# Altium footprint library SpeakEasy.PcbLib: 13 footprints
Each footprint in its own frame and in the unit in brackets; x right, y up, seen from the top. Pads: shape width x height; smd on the part's side, far side on the other; paste and mask are expansions set on the pad; w line width, h text height; cw(c..) or ccw(c..) is an arc to the next point about the centre after c.
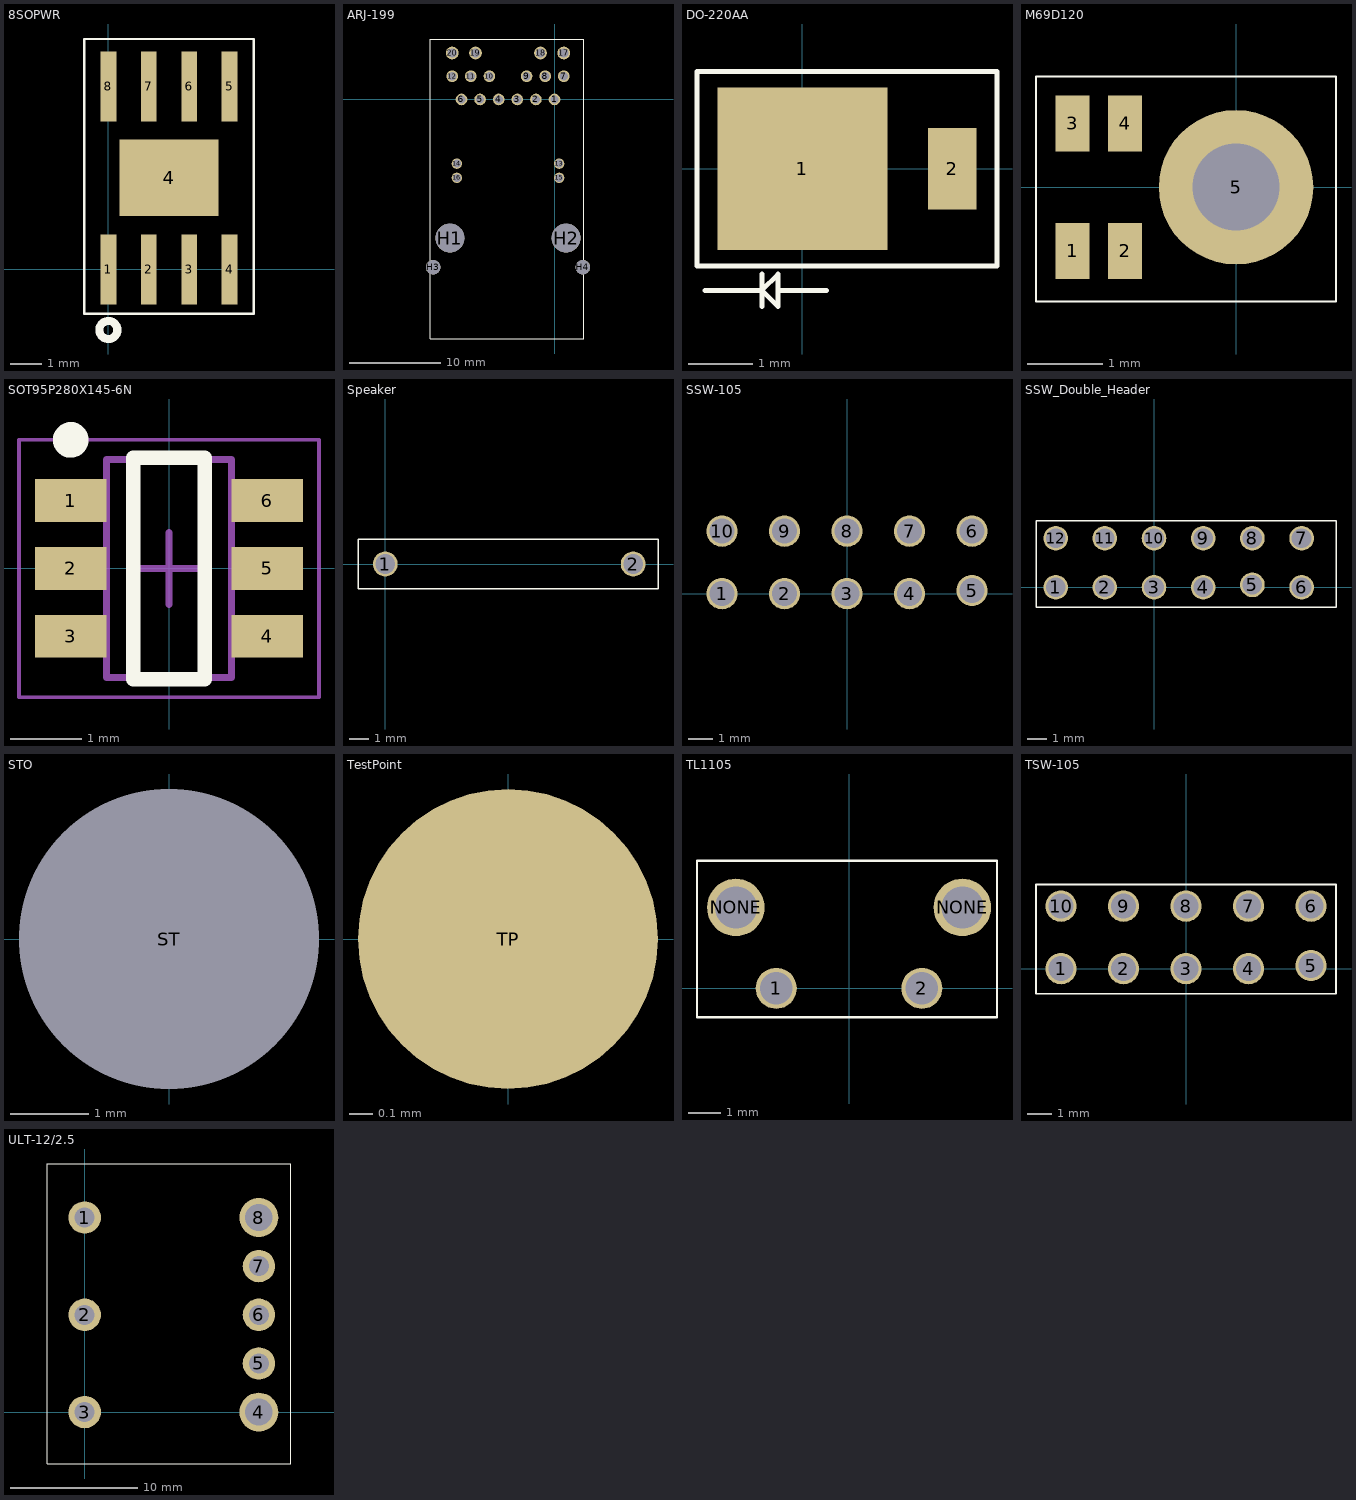
[diagram p0: the footprints below, top view; thin cyan lines are the x and y axes]

## 8SOPWR [mm] "TI SO 8 w/ Power Pad"
pads (9):
  rect 0.5x2.2 smd: 1(0,0) 2(1.27,0) 3(2.54,0) 4(3.81,0) 5(3.81,5.75) 6(2.54,5.75) 7(1.27,5.75) 8(0,5.75)
  rect 3.1x2.4 smd: 4(1.905,2.875)
Top Overlay:
  circle w0.254: c0,-1.905 r0.284
  lines w0.076: -0.762,-1.397 -0.762,7.239 4.572,7.239 4.572,-1.397 -0.762,-1.397
3D body "CircuitWorks-SO-8.step": height 1.45, standoff 0, extent -0.584,-0.095 4.318,5.683

## ARJ-199 [mil] "MagJack for POE+ Applications"
pads (24):
  round 50 hole 35: 1(0,0) 2(-80,0) 3(-160,0) 4(-240,0) 5(-320,0) 6(-400,0) 7(40,100) 8(-40,100) 9(-120,100) 10(-280,100) 11(-360,100) 12(-440,100)
  round 45 hole 35: 13(20,-276) 14(-420,-276) 15(20,-337) 16(-420,-337)
  round 55 hole 40: 17(40,200) 18(-60,200) 19(-340,200) 20(-440,200)
  round 124 hole 124: H1(-450,-596) H2(50,-596)
  round 63 hole 63: H3(-522,-721) H4(122,-721)
Top Overlay:
  lines w3: -535,-1030 125,-1030 125,260 -535,260 -535,-1030
3D body "ARJ-199.STEP": height 515.91, standoff -145.51, extent -530,-1026.75 123.54,256.75

## DO-220AA [mil] "Diode Footprint"
pads (2):
  rect 105x100 smd: 1(0,0)
  rect 30x50 smd: 2(92.5,0)
Top Overlay:
  lines w3: -60,-75 -25,-75 ; -25,-65 -25,-85 -25,-75 ; -15,-75 15,-75 ; -25,-75 -15,-65 -15,-85 -25,-75 ; -65,-60 -65,60 120,60 120,-60 -65,-60
3D body "SMP Package.STEP": height 39.37, standoff 0, extent -46.57,-40 105,39.92

## M69D120 [mm] "MEMS Microphone Package"
pads (5):
  rect 0.45x0.75 smd: 1(-2.18,-0.85) 2(-1.48,-0.85) 3(-2.18,0.85) 4(-1.48,0.85)
  round 2.06 hole 1.16: 5(0,0)
Top Overlay:
  lines w0.025: -2.667,-1.524 -2.667,1.476 1.333,1.476 1.333,-1.524 -2.667,-1.524
3D body "User Library-WM7121PE.SLDPRT": height 1.1, standoff 0, extent -2.642,-1.475 1.118,1.475

## SOT95P280X145-6N [mm] "SOT23, 6-Leads, Body 2.90x2.80mm, Pitch 0.95mm, IPC Medium Density"
height 1.45
pads (6):
  rect 1x0.6 smd: 1(-1.375,0.95) 2(-1.375,0) 3(-1.375,-0.95) 4(1.375,-0.95) 5(1.375,0) 6(1.375,0.95)
Top Overlay:
  circle w0.25: c-1.375,1.8 r0.125
  lines w0.2: -0.5,-1.55 0.5,-1.55 0.5,1.55 -0.5,1.55 -0.5,-1.55
Mechanical 13:
  lines w0.1: -0.875,-1.525 -0.875,1.525 0.875,1.525 0.875,-1.525 -0.875,-1.525
Mechanical 15:
  lines w0.05: -2.1,-1.8 -2.1,1.8 2.1,1.8 2.1,-1.8 -2.1,-1.8
  lines w0.1: -0.5,0 0.5,0 ; 0,-0.5 0,0.5
3D body: height 1.45, standoff 0.25, extent -0.875,-1.525 0.875,1.525

## Speaker [mil]
pads (2):
  round 50 hole 40: 1(0,0) 2(500,0)
Top Overlay:
  lines w3: -55,-50 -55,50 550,50 550,-50 -55,-50

## SSW-105 [mil] "For use in the stack as the downfacing connection"
pads (10):
  round 50 hole 40: 1(-200,0) 2(-100,0) 3(0,0) 4(100,0) 5(200,5) 6(200,100) 7(100,100) 8(0,100) 9(-100,100) 10(-200,100)
Bottom Overlay:
  lines w3: -240,-40 240,-40 240,135 -240,135 -240,-40
3D body "SSW-105-06-G-D.stp": height 124, standoff -335, extent -260,-49 260,146

## SSW_Double_Header [mil] "For Use with Programming and debug headers"
pads (12):
  round 50 hole 40: 1(-200,0) 2(-100,0) 3(0,0) 4(100,0) 5(200,5) 6(300,0) 7(300,100) 8(200,100) 9(100,100) 10(0,100) 11(-100,100) 12(-200,100)
Top Overlay:
  lines w3: -240,-40 370,-40 370,135 -240,135 -240,-40
3D body "SSW-106-02-G-D-RA.stp": height 197.5, standoff -97, extent -264.99,-12.99 355.01,490

## STO [mil]
pads (1):
  round 50 hole 150: ST(0,0)
3D body "91255A123_ALLOY STEEL BUTTON-HEAD SOCKET CAP SCREW.STEP": height 70, standoff -371, extent -118.99,-118.99 119,119

## TestPoint [mil] "TestPoint"
pads (1):
  round 50 smd: TP(0,0)

## TL1105 [mm] "Right Angle button footprint"
pads (4):
  round 1.27 hole 1: 1(-2.25,0) 2(2.25,0)
  round 1.778 hole 1.3: NONE(-3.5,2.5) NONE(3.5,2.5)
Top Overlay:
  lines w0.076: -4.699,-0.889 4.572,-0.889 4.572,3.937 -4.699,3.937 -4.699,-0.889
3D body "TL1105JFxxxx.stp": height 7.11, standoff -3.89, extent -4.197,-6.413 4.198,3.937

## TSW-105 [mil] "For use in the stack as the upfacing connection"
pads (10):
  round 50 hole 40: 1(-200,0) 2(-100,0) 3(0,0) 4(100,0) 5(200,5) 6(200,100) 7(100,100) 8(0,100) 9(-100,100) 10(-200,100)
Top Overlay:
  lines w3: -240,-40 -240,135 240,135 240,-40 -240,-40
3D body "TSW-105-07-G-D.stp": height 330, standoff -100, extent -249.99,-50 250.01,150

## ULT-12/2.5 [mil] "ULT 1/32 Brick DC/DC"
pads (8):
  round 100 hole 62: 1(0,600) 2(0,300) 3(0,0) 5(537,150) 6(537,300) 7(537,450)
  round 120 hole 84: 4(537,0) 8(537,600)
Top Overlay:
  lines w3: -115,-160 -115,765 635,765 635,-160 -115,-160
3D body "mps_dcdc_ult_a.step": height 173, standoff -338, extent -116,-155.5 630,765.5